# Altium footprint library DX-LR20-433M22S.PcbLib: 1 footprints
Each footprint in its own frame and in the unit in brackets; x right, y up, seen from the top. Pads: shape width x height; smd on the part's side, far side on the other; paste and mask are expansions set on the pad; w line width, h text height; cw(c..) or ccw(c..) is an arc to the next point about the centre after c.
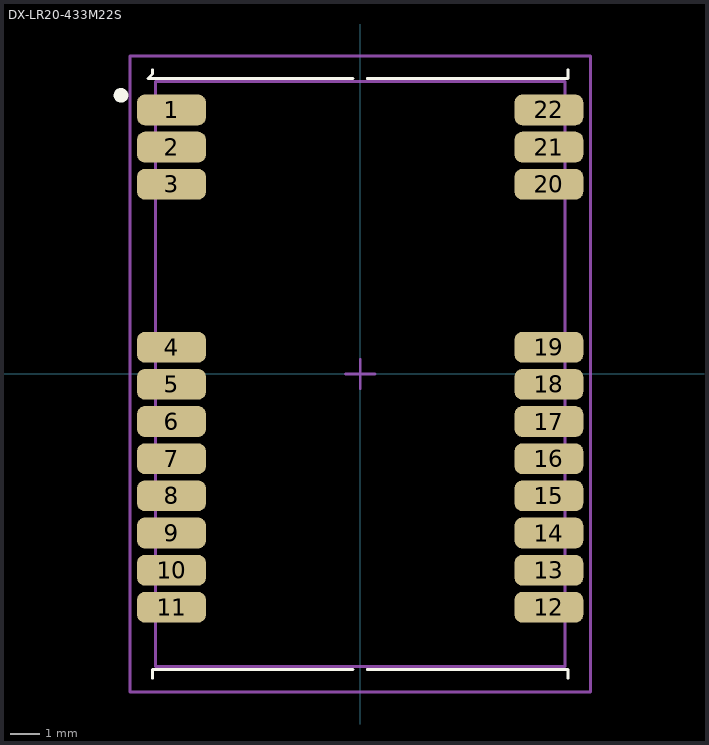
[diagram p0: the footprint, top view; thin cyan lines are the x and y axes]

## DX-LR20-433M22S [mm] "LCC, 22-Pins, Body 14.00x20.00mmx2.30mm, Pitch 1.27mm, IPC Medium Density"
height 2.3
pads (22):
  rrect50% 2.35x1.05 smd: 1(-6.45,9.025) 2(-6.45,7.755) 3(-6.45,6.485) 4(-6.45,0.915) 5(-6.45,-0.355) 6(-6.45,-1.625) 7(-6.45,-2.895) 8(-6.45,-4.165) 9(-6.45,-5.435) 10(-6.45,-6.705) 11(-6.45,-7.975) 12(6.45,-7.975) 13(6.45,-6.705) 14(6.45,-5.435) 15(6.45,-4.165) 16(6.45,-2.895) 17(6.45,-1.625) 18(6.45,-0.355) 19(6.45,0.915) 20(6.45,6.485) 21(6.45,7.755) 22(6.45,9.025)
Top Overlay:
  circle w0.25: c-8.175,9.525 r0.125
  lines w0.1: -7.1,-10.4 -7.1,-10.1 -0.24,-10.1 ; -7.1,10.4 -7.1,10.25 -7.25,10.1 -0.24,10.1 ; 0.24,-10.1 7.1,-10.1 7.1,-10.4 ; 0.24,10.1 7.1,10.1 7.1,10.4
Top 3D Body:
  lines w0.1: 6.977,10 -7,10 -7,-10 7,-10 7,10
  text "1" at -4.953,8.744 h1
Top Courtyard:
  lines w0.1: -0.5,0 0.5,0 ; 0,-0.5 0,0.5 ; -7.875,-10.875 -7.875,10.875 7.875,10.875 7.875,-10.875 -7.875,-10.875
Top Designator (Mech29):
  text ".Designator" at 0.333,-4.998 h1
3D body "DX-LR20-433M22S.step": height 2.3, standoff 0, extent -7,-10 7,10